# EAGLE library part TPS6302X (library m_vreg)
TPS6302x High Efficiency Single Inductor Buck-Boost Converter With 4-A Switches Features Input Voltage Range: 1.8 V to 5.5 V Fixed and Adjustable Output Voltage Options from 1.2 V to 5.5 V Up to 96% Efficiency 3-A Output Current at 3.3 V in Step Down Mode (VIN =3.6Vto5.5V) More than 2-A Output Current at 3.3 V in Boost Mode (VIN > 2.5 V) Automatic Transition Between Step Down and Boost Mode Dynamic Input Current Limit Device Quiescent Current less than 50 μA Power Save Mode for Improved Efficiency at Low Output Power Forced Fixed Frequency Operation at 2.4 MHz and Synchronization Possible Smart Power Good Output Load Disconnect During Shutdown Overtemperature Protection Overvoltage Protection Available in a 3mm × 4mm 14-Pin VSON Package (DSJ) Create a Custom Design Using the TPS6302x with the WEBENCH Power Designer Applications All Two-Cell and Three-Cell Alkaline, NiCd or NiMH or Single-Cell Li Battery Powered Products Ultra Mobile PCs and Mobile Internet Devices Digital Media Players Digital Still Cameras (DSC) and Camcorders Mobile Phones and Smart Phones Personal Medical Products Industrial Metering Equipment High Power LEDs Description The TPS6302x devices provide a power supply solution for products powered by either a two-cell or three-cell alkaline, NiCd or NiMH battery, or a one-cell Li-ion or Li-polymer battery. Output currents can go as high as 3 A while using a single-cell Li-ion or Li-polymer battery, and discharge it down to 2.5 V or lower. The buck- boost converter is based on a fixed frequency, pulse width modulation (PWM) controller using synchronous rectification to obtain maximum efficiency. At low load currents, the converter enters power save mode to maintain high efficiency over a wide load current range. The power save mode can be disabled, forcing the converter to operate at a fixed switching frequency. The maximum average current in the switches is limited to a typical value of 4 A. The output voltage is programmable using an external resistor divider, or is fixed internally on the chip. The converter can be disabled to minimize battery drain. During shutdown, the load is disconnected from the battery. The TPS6302x devices operate over a free air temperature range of –40°C to 85°C. The devices are packaged in a 14-pin VSON package measuring 3mm × 4mm (DSJ). Data from TI document SLVS916D – JULY 2010 – REVISED OCTOBER 2015 Octopart <https://octopart.com/search?q=tps6302%3Fdsj%3F>
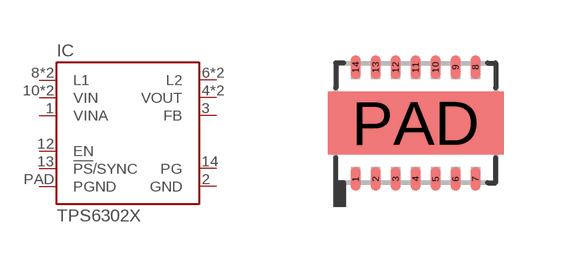
[diagram p12: symbol with the pads of R-PVSON-N14; footprint R-PVSON-N14]

Designator prefix IC

## TPS6302X (MANUF: TI; PARTNUM: TPS6302?DSJ?; VALUE: TPS6302X)  [R-PVSON-N14]
1  VINA  pas
2  GND  pas
3  FB  pas
4  VOUT  pas
5  VOUT  pas
6  L2  pas
7  L2  pas
8  L1  pas
9  L1  pas
10  VIN  pas
11  VIN  pas
12  EN  pas
13  !PS!/SYNC  pas
14  PG  pas
PAD  PGND  pas

## Footprint R-PVSON-N14 (pad centres in mm)
Plastic Small Outline No-Lead 3mm x 4mm Package Based on TI drawings 4208212-3/C 06/11, 4208549-3/G, 04/15, 4210895-2/E, 02/16
smd 0.24 x 0.6: 1 -1.5,-1.4; 2 -1,-1.4; 3 -0.5,-1.4; 4 0,-1.4; 5 0.5,-1.4; 6 1,-1.4; 7 1.5,-1.4; 8 1.5,1.4; 9 1,1.4; 10 0.5,1.4; 11 0,1.4; 12 -0.5,1.4; 13 -1,1.4; 14 -1.5,1.4
smd 4.4 x 1.58: PAD 0,0